# Altium footprint library CUI_CMI-1275-85T.PcbLib: 1 footprints
Each footprint in its own frame and in the unit in brackets; x right, y up, seen from the top. Pads: shape width x height; smd on the part's side, far side on the other; paste and mask are expansions set on the pad; w line width, h text height; cw(c..) or ccw(c..) is an arc to the next point about the centre after c.
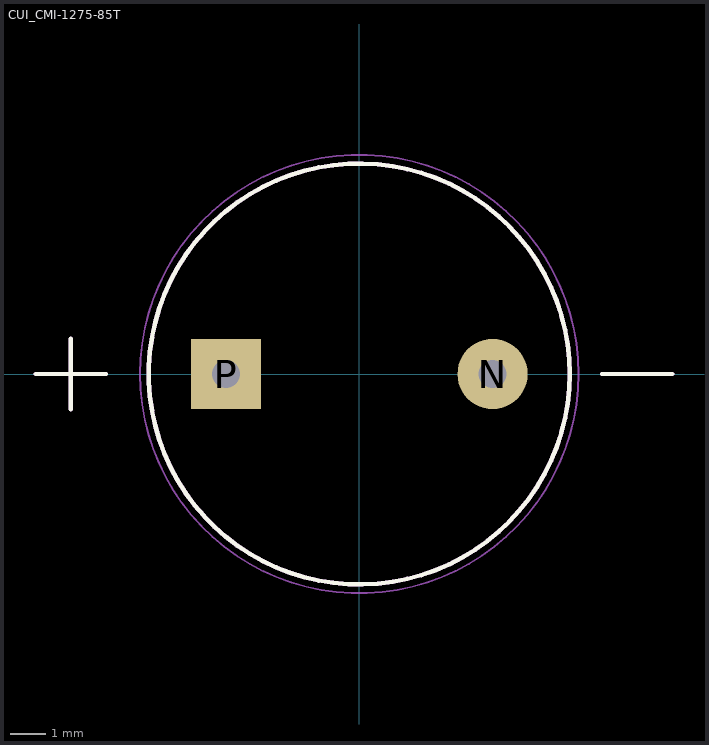
[diagram p0: the footprint, top view; thin cyan lines are the x and y axes]

## CUI_CMI-1275-85T [mm]
height 7.7
pads (2):
  round 2 hole 0.8: N(3.8,0)
  rect 2x2 / inner round 2 / far side rect 2x2 hole 0.8: P(-3.8,0)
Top Overlay:
  circle w0.127: c0,0 r6
  lines w0.127: -9.22,0 -7.22,0 ; -8.22,-1 -8.22,1 ; 6.92,0 8.92,0
Mechanical 13:
  circle w0.127: c0,0 r6
  lines w0.127: -9.22,0 -7.22,0 ; -8.22,-1 -8.22,1 ; 6.92,0 8.92,0
Mechanical 15:
  circle w0.05: c0,0 r6.25